# Altium schematic symbol library 16-PCBa Modules.SchLib: 122 symbols
Pins are listed as number, name and electrical type; pins without a type are passive.

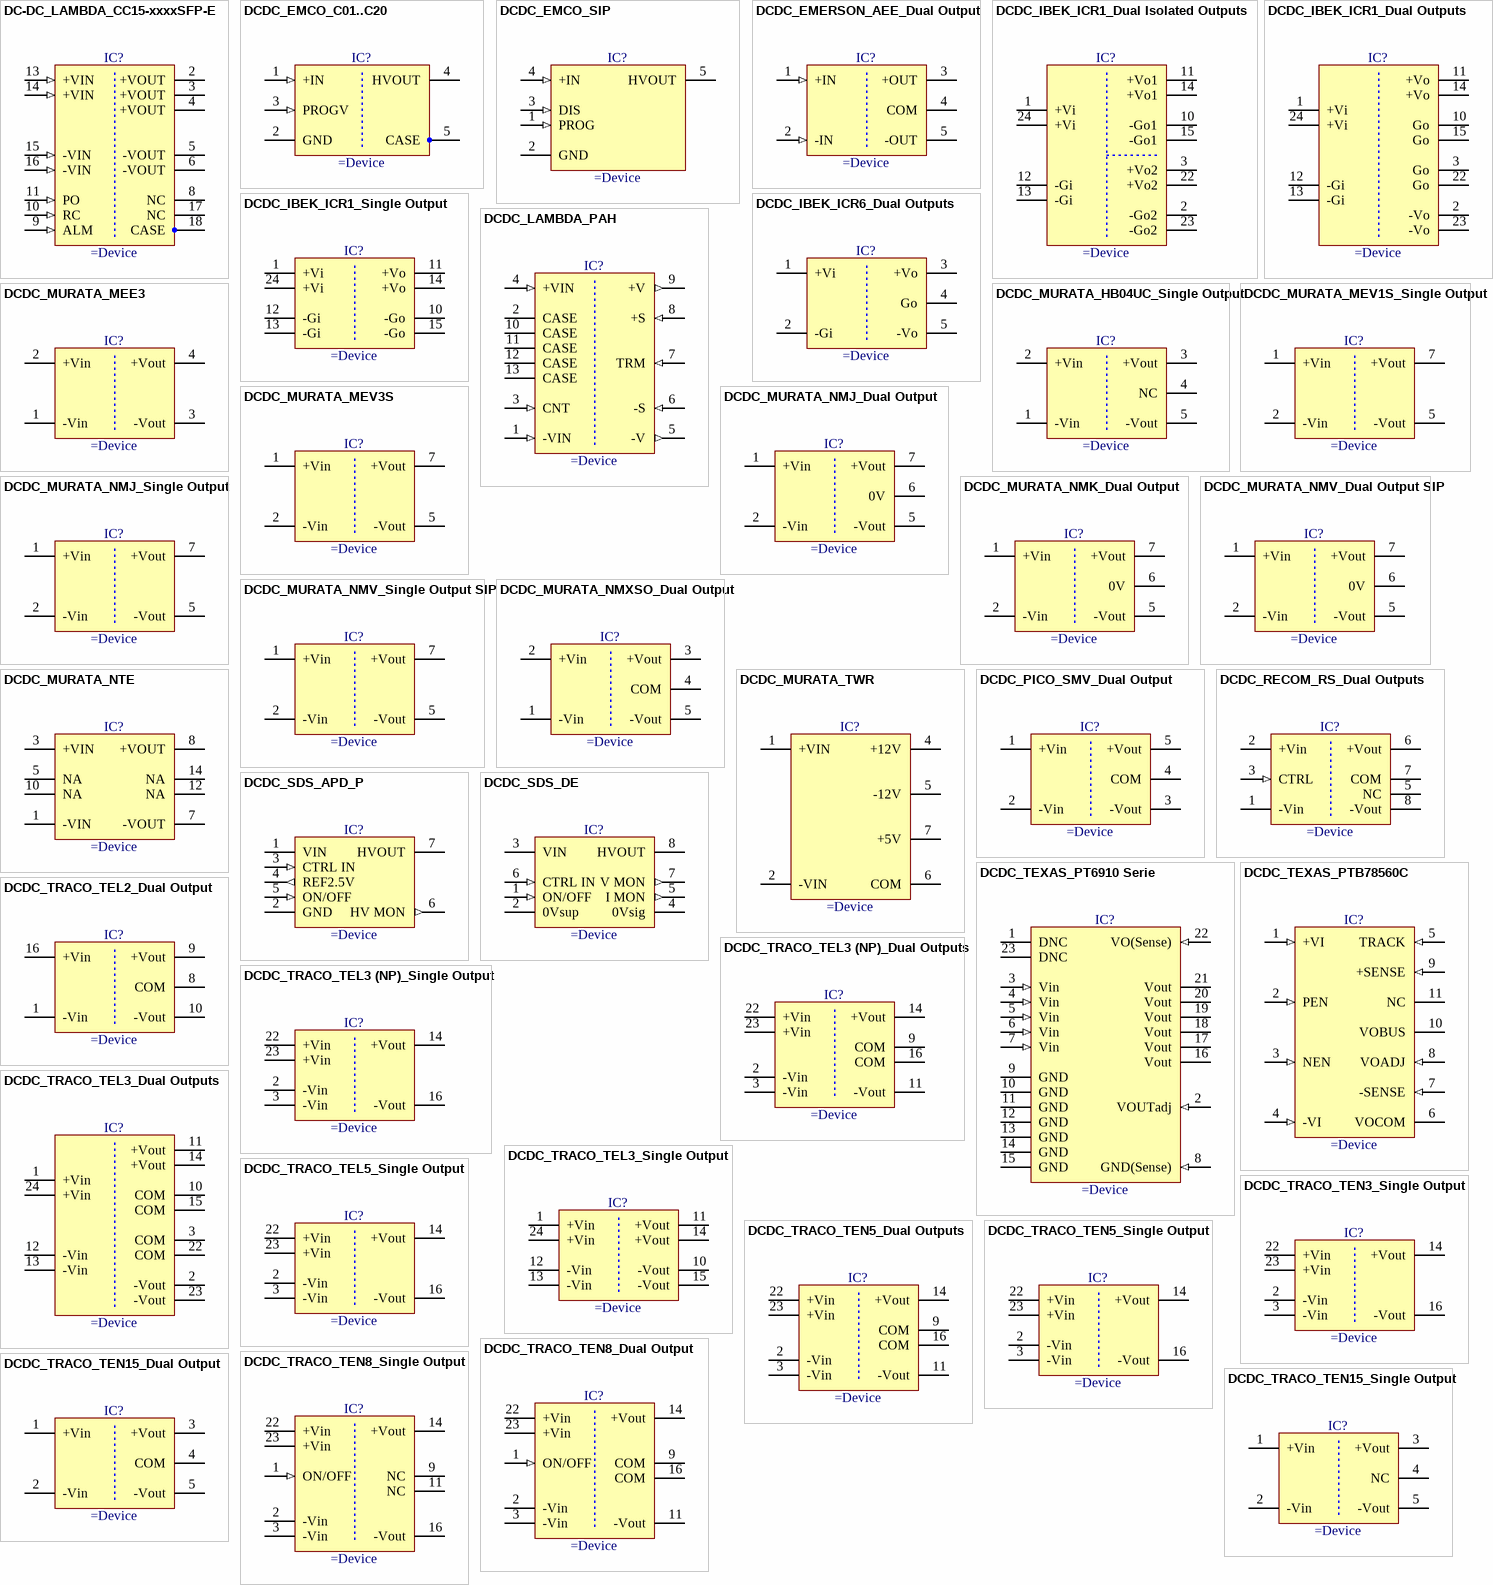
[diagram p0: symbols DC-DC_LAMBDA_CC15-xxxxSFP-E to DCDC_TRACO_TEN15_Single Output]

## DC-DC_LAMBDA_CC15-xxxxSFP-E
designator IC?
LAMBDA , CCP-E Series, 24V Input, 15W DCDC Converter
pins: 2 +VOUT (power) "Baseplate Terminal", 3 +VOUT (power) "On / Off Control terminal", 4 +VOUT (power) "Positive Input Terminal", 5 -VOUT (power) "Negative Output Terminal", 6 -VOUT (power) "Negative Remote sense", 8 NC "Positive Remote sense", 9 ALM (in) "Positive Output Terminal", 10 RC (in) "Baseplate Terminal", 11 PO (in) "Baseplate Terminal", 13 +VIN (in) "Baseplate Terminal", 14 +VIN (in) "Positive Output Terminal", 15 -VIN (in) "Positive Output Terminal", 16 -VIN (in) "Positive Output Terminal", 17 NC "Positive Output Terminal", 18 CASE (power) "Positive Output Terminal"

## DCDC_EMCO_C01..C20
designator IC?
C Series, High Voltage DC-DC Converter
pins: 1 +IN (in), 2 GND (power), 3 PROGV (in), 4 HVOUT (power), 5 CASE (power)

## DCDC_EMCO_SIP
designator IC?
SIP Series, Regulated, Low Profile High Voltage DC-DC Converter
pins: 1 PROG (in), 2 GND (power), 3 DIS (in), 4 +IN (in), 5 HVOUT (power)

## DCDC_EMERSON_AEE_Dual Output
designator IC?
EMERSON AEE 15W Serie, Dual Output DCDC Converter
pins: 1 +IN (in), 2 -IN (in), 3 +OUT (power), 4 COM (power), 5 -OUT (power)

## DCDC_IBEK_ICR1_Dual Isolated Outputs
designator IC?
IBEK, ICR1 Serie, Dual Isolated Outputs DCDC Converter
pins: 1 +Vi (power), 2 -Go2 (power), 3 +Vo2 (power), 10 -Go1 (power), 11 +Vo1 (power), 12 -Gi (power), 13 -Gi (power), 14 +Vo1 (power), 15 -Go1 (power), 22 +Vo2 (power), 23 -Go2 (power), 24 +Vi (power)

## DCDC_IBEK_ICR1_Dual Outputs
designator IC?
IBEK, ICR1 Serie, Dual Outputs DCDC Converter
pins: 1 +Vi (power), 2 -Vo (power), 3 Go (power), 10 Go (power), 11 +Vo (power), 12 -Gi (power), 13 -Gi (power), 14 +Vo (power), 15 Go (power), 22 Go (power), 23 -Vo (power), 24 +Vi (power)

## DCDC_IBEK_ICR1_Single Output
designator IC?
IBEK, ICR1 Serie, Single Output DCDC Converter
pins: 1 +Vi (power), 10 -Go (power), 11 +Vo (power), 12 -Gi (power), 13 -Gi (power), 14 +Vo (power), 15 -Go (power), 24 +Vi (power)

## DCDC_IBEK_ICR6_Dual Outputs
designator IC?
IBEK, ICR6 Serie, Dual Outputs DCDC Converter
pins: 1 +Vi (power), 2 -Gi (power), 3 +Vo (power), 4 Go (power), 5 -Vo (power)

## DCDC_LAMBDA_PAH
designator IC?
LAMBDA , PAH Serie, 50W To 200W, 48V Input Half Brick DCDC Converter
pins: 1 -VIN (in) "Negative Input Terminal", 2 CASE "Baseplate Terminal", 3 CNT (in) "On / Off Control terminal", 4 +VIN (in) "Positive Input Terminal", 5 -V (out) "Negative Output Terminal", 6 -S (in) "Negative Remote sense", 7 TRM (in) "Output adjustment Trim pin", 8 +S (in) "Positive Remote sense", 9 +V (out) "Positive Output Terminal", 10 CASE "Baseplate Terminal", 11 CASE "Baseplate Terminal", 12 CASE "Baseplate Terminal", 13 CASE "Baseplate Terminal"

## DCDC_MURATA_HB04UC_Single Output
designator IC?
4W Unregulated High Isolation DC-DC Converter
pins: 1 -Vin (power), 2 +Vin (power), 3 +Vout (power), 4 NC (power), 5 -Vout (power)

## DCDC_MURATA_MEE3
designator IC?
1kV Isolated 3W Single Output DC-DC Converter
pins: 1 -Vin (power), 2 +Vin (power), 3 -Vout (power), 4 +Vout (power)

## DCDC_MURATA_MEV1S_Single Output
designator IC?
MURATA, MEV3S Serie DCDC Converter
pins: 1 +Vin (power), 2 -Vin (power), 5 -Vout (power), 7 +Vout (power)

## DCDC_MURATA_MEV3S
designator IC?
MURATA, MEV3S Serie DCDC Converter
pins: 1 +Vin (power), 2 -Vin (power), 5 -Vout (power), 7 +Vout (power)

## DCDC_MURATA_NMJ_Dual Output
designator IC?
MURATA, NMJ Serie, Dual Output DCDC Converter
pins: 1 +Vin (power), 2 -Vin (power), 5 -Vout (power), 6 0V (power), 7 +Vout (power)

## DCDC_MURATA_NMJ_Single Output
designator IC?
MURATA, NMJ Serie, Single Output DCDC Converter
pins: 1 +Vin (power), 2 -Vin (power), 5 -Vout (power), 7 +Vout (power)

## DCDC_MURATA_NMK_Dual Output
designator IC?
MURATA, NMK Serie, Dual Output DCDC Converter
pins: 1 +Vin (power), 2 -Vin (power), 5 -Vout (power), 6 0V (power), 7 +Vout (power)

## DCDC_MURATA_NMV_Dual Output SIP
designator IC?
MURATA, NMV Serie, Dual Output DCDC Converter
pins: 1 +Vin (power), 2 -Vin (power), 5 -Vout (power), 6 0V (power), 7 +Vout (power)

## DCDC_MURATA_NMV_Single Output SIP
designator IC?
MURATA, NMV Serie, Single Output DCDC Converter
pins: 1 +Vin (power), 2 -Vin (power), 5 -Vout (power), 7 +Vout (power)

## DCDC_MURATA_NMXSO_Dual Output
designator IC?
Isolated 5W Regulated Single & Dual Output DC-DC Converter
pins: 1 -Vin (power), 2 +Vin (power), 3 +Vout (power), 4 COM (power), 5 -Vout (power)

## DCDC_MURATA_NTE
designator IC?
NTE Series, DC-DC Converter
pins: 1 -VIN (power), 3 +VIN (power), 5 NA, 7 -VOUT (power), 8 +VOUT (power), 10 NA, 12 NA, 14 NA

## DCDC_MURATA_TWR
designator IC?
High-Reliability, 2" x 1", 8-11 W, Triple Output DC/DC Converters
pins: 1 +VIN (power), 2 -VIN (power), 4 +12V (power), 5 -12V (power), 6 COM (power), 7 +5V (power)

## DCDC_PICO_SMV_Dual Output
designator IC?
PICO, SMV Serie, Dual Output DCDC Converter
pins: 1 +Vin (power), 2 -Vin (power), 3 -Vout (power), 4 COM (power), 5 +Vout (power)

## DCDC_RECOM_RS_Dual Outputs
designator IC?
RECOM, RS Series, Dual Output DCDC Converter
pins: 1 -Vin (power), 2 +Vin (power), 3 CTRL (in), 5 NC, 6 +Vout (power), 7 COM (power), 8 -Vout (power)

## DCDC_SDS_APD_P
designator IC?
SDS, APD Serie, High Voltage DC-DC Converter
pins: 1 VIN (power), 2 GND (power), 3 CTRL IN (in), 4 REF2.5V (out), 5 ON/OFF (in), 6 HV MON (out), 7 HVOUT (power)

## DCDC_SDS_DE
designator IC?
SDS, DE Serie, High Voltage DC-DC Converter
pins: 1 ON/OFF (in), 2 0Vsup (power), 3 VIN (power), 4 0Vsig (power), 5 I MON (out), 6 CTRL IN (in), 7 V MON (out), 8 HVOUT (power)

## DCDC_TEXAS_PT6910 Serie
designator IC?
12 Watt 5V/3.3V Input Plus to Minus Voltage Converter
pins: 1 DNC, 2 VOUTadj (in), 3 Vin (in), 4 Vin (in), 5 Vin (in), 6 Vin (in), 7 Vin (in), 8 GND(Sense) (in), 9 GND (power), 10 GND (power), 11 GND (power), 12 GND (power), 13 GND (power), 14 GND (power), 15 GND (power), 16 Vout (power), 17 Vout (power), 18 Vout (power), 19 Vout (power), 20 Vout (power), 21 Vout (power), 22 VO(Sense) (in), 23 DNC

## DCDC_TEXAS_PTB78560C
designator IC?
30W DC-DC Converter
pins: 1 +VI (in), 2 PEN (in), 3 NEN (in), 4 -VI (in), 5 TRACK (in), 6 VOCOM (power), 7 -SENSE (in), 8 VOADJ (in), 9 +SENSE (in), 10 VOBUS (power), 11 NC

## DCDC_TRACO_TEL2_Dual Output
designator IC?
TRACO, TEL2 Serie, Dual Output DCDC Converter
pins: 1 -Vin (power), 8 COM (power), 9 +Vout (power), 10 -Vout (power), 16 +Vin (power)

## DCDC_TRACO_TEL3 (NP)_Dual Outputs
designator IC?
TRACO, TEL3 Serie, NP Pinout, Dual Outputs DCDC Converter
pins: 2 -Vin (power), 3 -Vin (power), 9 COM (power), 11 -Vout (power), 14 +Vout (power), 16 COM (power), 22 +Vin (power), 23 +Vin (power)

## DCDC_TRACO_TEL3 (NP)_Single Output
designator IC?
TRACO, TEL3 Serie, NP Pinout, Single Output DCDC Converter
pins: 2 -Vin (power), 3 -Vin (power), 14 +Vout (power), 16 -Vout (power), 22 +Vin (power), 23 +Vin (power)

## DCDC_TRACO_TEL3_Dual Outputs
designator IC?
TRACO, TEL3 Serie, Dual Outputs DCDC Converter
pins: 1 +Vin (power), 2 -Vout (power), 3 COM (power), 10 COM (power), 11 +Vout (power), 12 -Vin (power), 13 -Vin (power), 14 +Vout (power), 15 COM (power), 22 COM (power), 23 -Vout (power), 24 +Vin (power)

## DCDC_TRACO_TEL3_Single Output
designator IC?
TRACO, TEL3 Serie, Single Output DCDC Converter
pins: 1 +Vin (power), 10 -Vout (power), 11 +Vout (power), 12 -Vin (power), 13 -Vin (power), 14 +Vout (power), 15 -Vout (power), 24 +Vin (power)

## DCDC_TRACO_TEL5_Single Output
designator IC?
TRACO, TEL5 Serie, Single Output DCDC Converter
pins: 2 -Vin (power), 3 -Vin (power), 14 +Vout (power), 16 -Vout (power), 22 +Vin (power), 23 +Vin (power)

## DCDC_TRACO_TEN3_Single Output
designator IC?
TRACO, TEN3 Serie, Single Output DCDC Converter
pins: 2 -Vin (power), 3 -Vin (power), 14 +Vout (power), 16 -Vout (power), 22 +Vin (power), 23 +Vin (power)

## DCDC_TRACO_TEN5_Dual Outputs
designator IC?
TRACO, TEN5 Serie, Dual Outputs DCDC Converter
pins: 2 -Vin (power), 3 -Vin (power), 9 COM (power), 11 -Vout (power), 14 +Vout (power), 16 COM (power), 22 +Vin (power), 23 +Vin (power)

## DCDC_TRACO_TEN5_Single Output
designator IC?
TRACO, TEN5 Serie, Single Output DCDC Converter
pins: 2 -Vin (power), 3 -Vin (power), 14 +Vout (power), 16 -Vout (power), 22 +Vin (power), 23 +Vin (power)

## DCDC_TRACO_TEN8_Dual Output
designator IC?
TRACO, TEN Serie, Dual Output DCDC Converter
pins: 1 ON/OFF (in), 2 -Vin (power), 3 -Vin (power), 9 COM (power), 11 -Vout (power), 14 +Vout (power), 16 COM (power), 22 +Vin (power), 23 +Vin (power)

## DCDC_TRACO_TEN8_Single Output
designator IC?
TRACO, TEN Serie, Single Output DCDC Converter
pins: 1 ON/OFF (in), 2 -Vin (power), 3 -Vin (power), 9 NC, 11 NC, 14 +Vout (power), 16 -Vout (power), 22 +Vin (power), 23 +Vin (power)

## DCDC_TRACO_TEN15_Dual Output
designator IC?
TRACO, TEN15 Serie, Dual Output DCDC Converter
pins: 1 +Vin (power), 2 -Vin (power), 3 +Vout (power), 4 COM (power), 5 -Vout (power)

## DCDC_TRACO_TEN15_Single Output
designator IC?
TRACO, TEN15 Serie, Single Output DCDC Converter
pins: 1 +Vin (power), 2 -Vin (power), 3 +Vout (power), 4 NC (power), 5 -Vout (power)

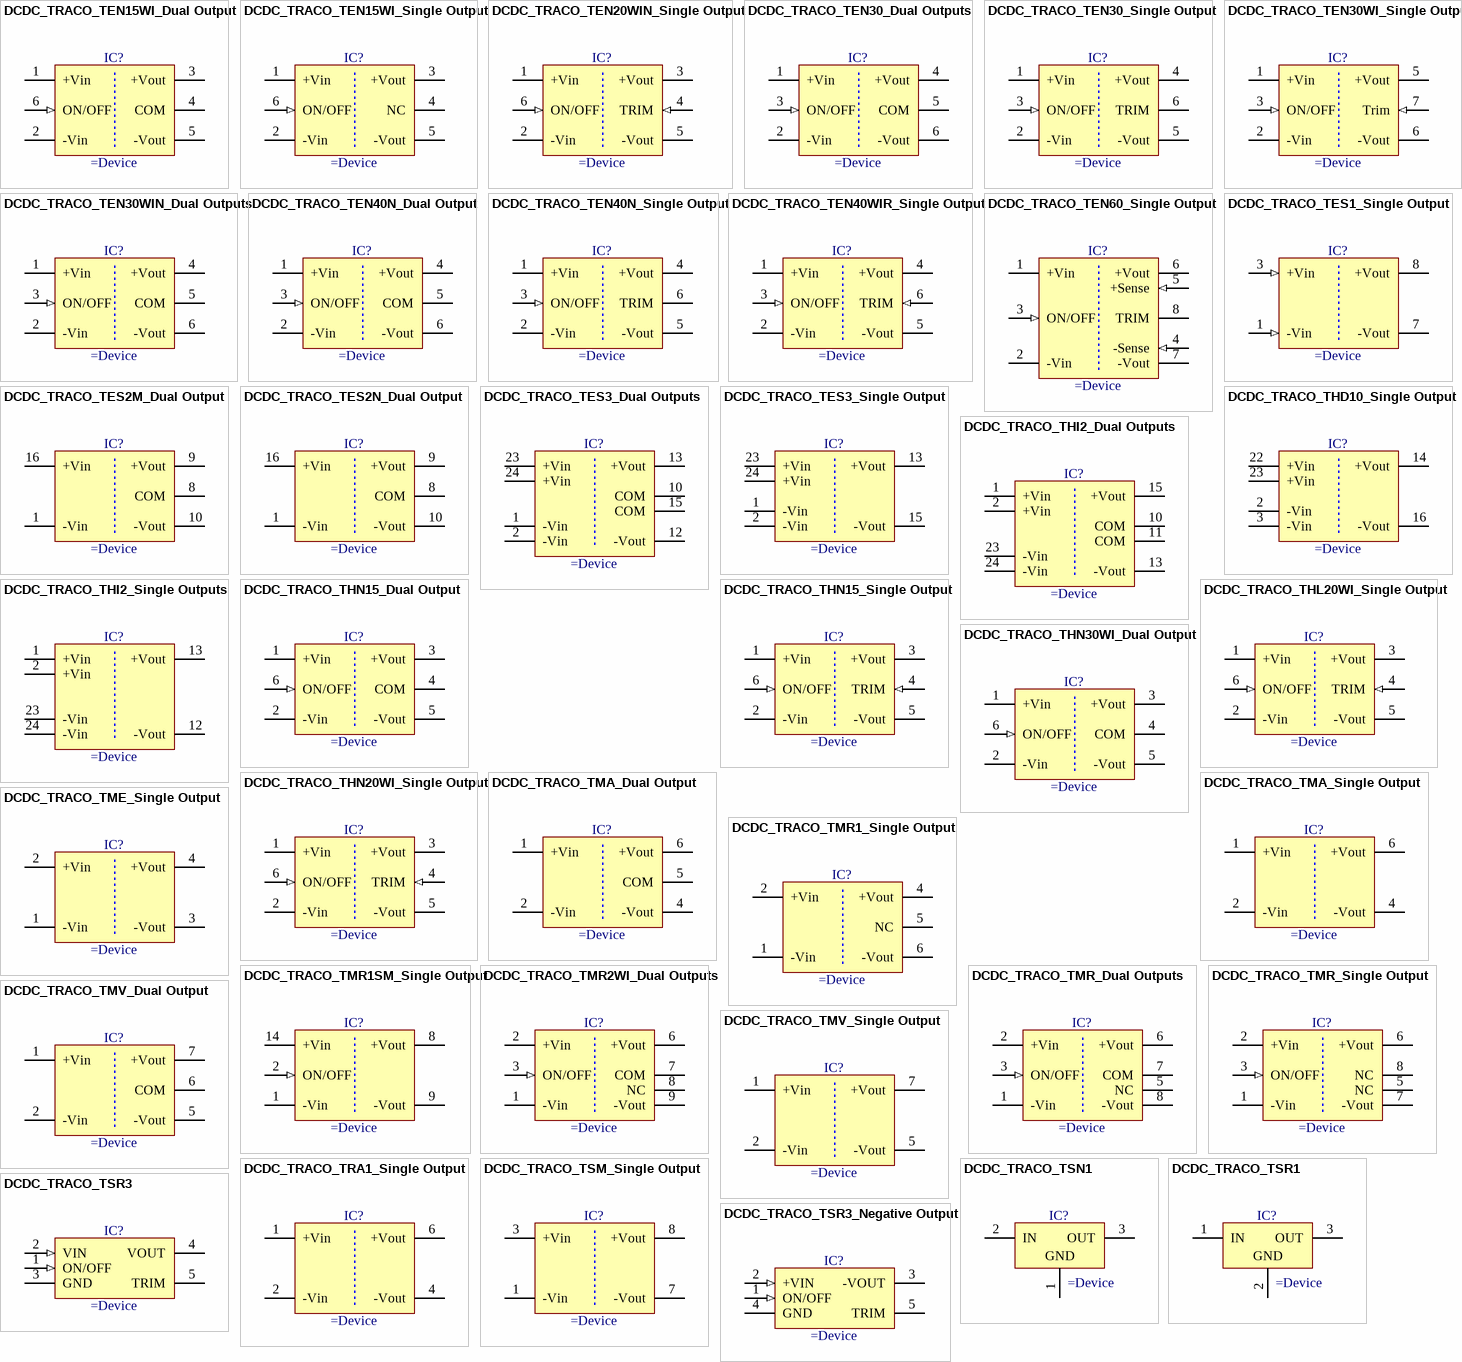
[diagram p1: symbols DCDC_TRACO_TEN15WI_Dual Output to DCDC_TRACO_TSR3_Negative Output]

## DCDC_TRACO_TEN15WI_Dual Output
designator IC?
TRACO, TEN15WI Serie, Dual Output DCDC Converter
pins: 1 +Vin (power), 2 -Vin (power), 3 +Vout (power), 4 COM (power), 5 -Vout (power), 6 ON/OFF (in)

## DCDC_TRACO_TEN15WI_Single Output
designator IC?
TRACO, TEN15WI Serie, Single Output DCDC Converter
pins: 1 +Vin (power), 2 -Vin (power), 3 +Vout (power), 4 NC (power), 5 -Vout (power), 6 ON/OFF (in)

## DCDC_TRACO_TEN20WIN_Single Output
designator IC?
TRACO, TEN20WIN Serie, Single Output DCDC Converter
pins: 1 +Vin (power), 2 -Vin (power), 3 +Vout (power), 4 TRIM (in), 5 -Vout (power), 6 ON/OFF (in)

## DCDC_TRACO_TEN30_Dual Outputs
designator IC?
TRACO, TEN30 Series, Dual Outputs DCDC Converter
pins: 1 +Vin (power), 2 -Vin (power), 3 ON/OFF (in), 4 +Vout (power), 5 COM (power), 6 -Vout (power)

## DCDC_TRACO_TEN30_Single Output
designator IC?
TRACO, TEN30 Series, Single Output DCDC Converter
pins: 1 +Vin (power), 2 -Vin (power), 3 ON/OFF (in), 4 +Vout (power), 5 -Vout (power), 6 TRIM (power)

## DCDC_TRACO_TEN30WI_Single Output
designator IC?
TRACO, TEN30WI Series, Single Outputs DCDC Converter
pins: 1 +Vin (power), 2 -Vin (power), 3 ON/OFF (in), 5 +Vout (power), 6 -Vout (power), 7 Trim (in)

## DCDC_TRACO_TEN30WIN_Dual Outputs
designator IC?
TRACO, TEN30WIN Series, Dual Outputs DCDC Converter
pins: 1 +Vin (power), 2 -Vin (power), 3 ON/OFF (in), 4 +Vout (power), 5 COM (power), 6 -Vout (power)

## DCDC_TRACO_TEN40N_Dual Output
designator IC?
TRACO, TEN40N Series, Dual Output DCDC Converter
pins: 1 +Vin (power), 2 -Vin (power), 3 ON/OFF (in), 4 +Vout (power), 5  COM (power), 6 -Vout (power)

## DCDC_TRACO_TEN40N_Single Output
designator IC?
TRACO, TEN40N Series, Single Output DCDC Converter
pins: 1 +Vin (power), 2 -Vin (power), 3 ON/OFF (in), 4 +Vout (power), 5 -Vout (power), 6 TRIM (power)

## DCDC_TRACO_TEN40WIR_Single Output
designator IC?
TRACO, TEN40WIR Serie, Single Output DCDC Converter
pins: 1 +Vin (power), 2 -Vin (power), 3 ON/OFF (in), 4 +Vout (power), 5 -Vout (power), 6 TRIM (in)

## DCDC_TRACO_TEN60_Single Output
designator IC?
TRACO, TEN60 Series, Single Output DCDC Converter
pins: 1 +Vin (power), 2 -Vin (power), 3 ON/OFF (in), 4 -Sense (in), 5 +Sense (in), 6 +Vout (power), 7 -Vout (power), 8 TRIM (power)

## DCDC_TRACO_TES1_Single Output
designator IC?
TRACO, TES1 Serie, Single Output DCDC Converter
pins: 1 -Vin (in), 3 +Vin (in), 7 -Vout (power), 8 +Vout (power)

## DCDC_TRACO_TES2M_Dual Output
designator IC?
TRACO, TES 2M Serie, Dual Output DCDC Converter
pins: 1 -Vin (power), 8 COM (power), 9 +Vout (power), 10 -Vout (power), 16 +Vin (power)

## DCDC_TRACO_TES2N_Dual Output
designator IC?
TRACO, TES 2N Serie, Dual Output DCDC Converter
pins: 1 -Vin (power), 8 COM (power), 9 +Vout (power), 10 -Vout (power), 16 +Vin (power)

## DCDC_TRACO_TES3_Dual Outputs
designator IC?
TRACO, TES3 Serie, Dual Outputs DCDC Converter
pins: 1 -Vin (power), 2 -Vin (power), 10 COM (power), 12 -Vout (power), 13 +Vout (power), 15 COM (power), 23 +Vin (power), 24 +Vin (power)

## DCDC_TRACO_TES3_Single Output
designator IC?
TRACO, TES3 Serie, Single Output DCDC Converter
pins: 1 -Vin (power), 2 -Vin (power), 13 +Vout (power), 15 -Vout (power), 23 +Vin (power), 24 +Vin (power)

## DCDC_TRACO_THD10_Single Output
designator IC?
TRACO, THD10 Series, Single Output DCDC Converter
pins: 2 -Vin (power), 3 -Vin (power), 14 +Vout (power), 16 -Vout (power), 22 +Vin (power), 23 +Vin (power)

## DCDC_TRACO_THI2_Dual Outputs
designator IC?
TRACO, THI Serie, Dual Outputs DCDC Converter
pins: 1 +Vin (power), 2 +Vin (power), 10 COM (power), 11 COM (power), 13 -Vout (power), 15 +Vout (power), 23 -Vin (power), 24 -Vin (power)

## DCDC_TRACO_THI2_Single Outputs
designator IC?
TRACO, THI Serie, Single Outputs DCDC Converter
pins: 1 +Vin (power), 2 +Vin (power), 12 -Vout (power), 13 +Vout (power), 23 -Vin (power), 24 -Vin (power)

## DCDC_TRACO_THL20WI_Single Output
designator IC?
TRACO, THL 20WI Series, Single Outputs DCDC Converter
pins: 1 +Vin (power), 2 -Vin (power), 3 +Vout (power), 4 TRIM (in), 5 -Vout (power), 6 ON/OFF (in)

## DCDC_TRACO_THN15_Dual Output
designator IC?
TRACO, THN15 Series, Dual Outputs DCDC Converter
pins: 1 +Vin (power), 2 -Vin (power), 3 +Vout (power), 4 COM (power), 5 -Vout (power), 6 ON/OFF (in)

## DCDC_TRACO_THN15_Single Output
designator IC?
TRACO, THN15 Series, Single Outputs DCDC Converter
pins: 1 +Vin (power), 2 -Vin (power), 3 +Vout (power), 4 TRIM (in), 5 -Vout (power), 6 ON/OFF (in)

## DCDC_TRACO_THN20WI_Single Output
designator IC?
TRACO, THN20WI Series, Single Outputs DCDC Converter
pins: 1 +Vin (power), 2 -Vin (power), 3 +Vout (power), 4 TRIM (in), 5 -Vout (power), 6 ON/OFF (in)

## DCDC_TRACO_THN30WI_Dual Output
designator IC?
TRACO, THN30 Series, Dual Outputs DCDC Converter
pins: 1 +Vin (power), 2 -Vin (power), 3 +Vout (power), 4 COM (power), 5 -Vout (power), 6 ON/OFF (in)

## DCDC_TRACO_TMA_Dual Output
designator IC?
TRACO, TMA Serie, Dual Output DCDC Converter
pins: 1 +Vin (power), 2 -Vin (power), 4 -Vout (power), 5 COM (power), 6 +Vout (power)

## DCDC_TRACO_TMA_Single Output
designator IC?
TRACO, TMA Serie, Single Output DCDC Converter
pins: 1 +Vin (power), 2 -Vin (power), 4 -Vout (power), 6 +Vout (power)

## DCDC_TRACO_TME_Single Output
designator IC?
TRACO, TME Serie, Single Output DCDC Converter
pins: 1 -Vin (power), 2 +Vin (power), 3 -Vout (power), 4 +Vout (power)

## DCDC_TRACO_TMR1_Single Output
designator IC?
TRACO, TMR 1 Series, Single Output DCDC Converter
pins: 1 -Vin (power), 2 +Vin (power), 4 +Vout (power), 5 NC (power), 6 -Vout (power)

## DCDC_TRACO_TMR1SM_Single Output
designator IC?
TRACO, TMR 1SM Series, Single Output DCDC Converter
pins: 1 -Vin (power), 2 ON/OFF (in), 8 +Vout (power), 9 -Vout (power), 14 +Vin (power)

## DCDC_TRACO_TMR2WI_Dual Outputs
designator IC?
TRACO, TMR 2WI Series, Dual Output DCDC Converter
pins: 1 -Vin (power), 2 +Vin (power), 3 ON/OFF (in), 6 +Vout (power), 7 COM (power), 8 NC, 9 -Vout (power)

## DCDC_TRACO_TMR_Dual Outputs
designator IC?
TRACO, TMR 2 Series, Dual Output DCDC Converter
pins: 1 -Vin (power), 2 +Vin (power), 3 ON/OFF (in), 5 NC (power), 6 +Vout (power), 7 COM (power), 8 -Vout (power)

## DCDC_TRACO_TMR_Single Output
designator IC?
TRACO, TMR Series, Single Output DCDC Converter
pins: 1 -Vin (power), 2 +Vin (power), 3 ON/OFF (in), 5 NC (power), 6 +Vout (power), 7 -Vout (power), 8 NC (power)

## DCDC_TRACO_TMV_Dual Output
designator IC?
TRACO, TMV Serie, Dual Output DCDC Converter
pins: 1 +Vin (power), 2 -Vin (power), 5 -Vout (power), 6 COM (power), 7 +Vout (power)

## DCDC_TRACO_TMV_Single Output
designator IC?
TRACO, TMV Serie, Single Output DCDC Converter
pins: 1 +Vin (power), 2 -Vin (power), 5 -Vout (power), 7 +Vout (power)

## DCDC_TRACO_TRA1_Single Output
designator IC?
TRACO, TRA1 Serie, Single Output DCDC Converter
pins: 1 +Vin (power), 2 -Vin (power), 4 -Vout (power), 6 +Vout (power)

## DCDC_TRACO_TSM_Single Output
designator IC?
TRACO, TSM Serie, Single Output DCDC Converter
pins: 1 -Vin (power), 3 +Vin (power), 7 -Vout (power), 8 +Vout (power)

## DCDC_TRACO_TSN1
designator IC?
TRACO, TSN 1 Serie, Single Output DCDC Converter
pins: 1 GND (power), 2 IN (power), 3 OUT (power)

## DCDC_TRACO_TSR1
designator IC?
TRACO, TSR 1 Serie, Single Output DCDC Converter
pins: 1 IN (power), 2 GND (power), 3 OUT (power)

## DCDC_TRACO_TSR3
designator IC?
TRACO, TSR 3 Serie, DCDC Converter
pins: 1 ON/OFF (in), 2 VIN (in), 3 GND (power), 4 VOUT (power), 5 TRIM

## DCDC_TRACO_TSR3_Negative Output
designator IC?
TRACO, TSR 3 Series, Negative Output, DCDC Converter
pins: 1 ON/OFF (in), 2 +VIN (in), 3 -VOUT (power), 4 GND (power), 5 TRIM

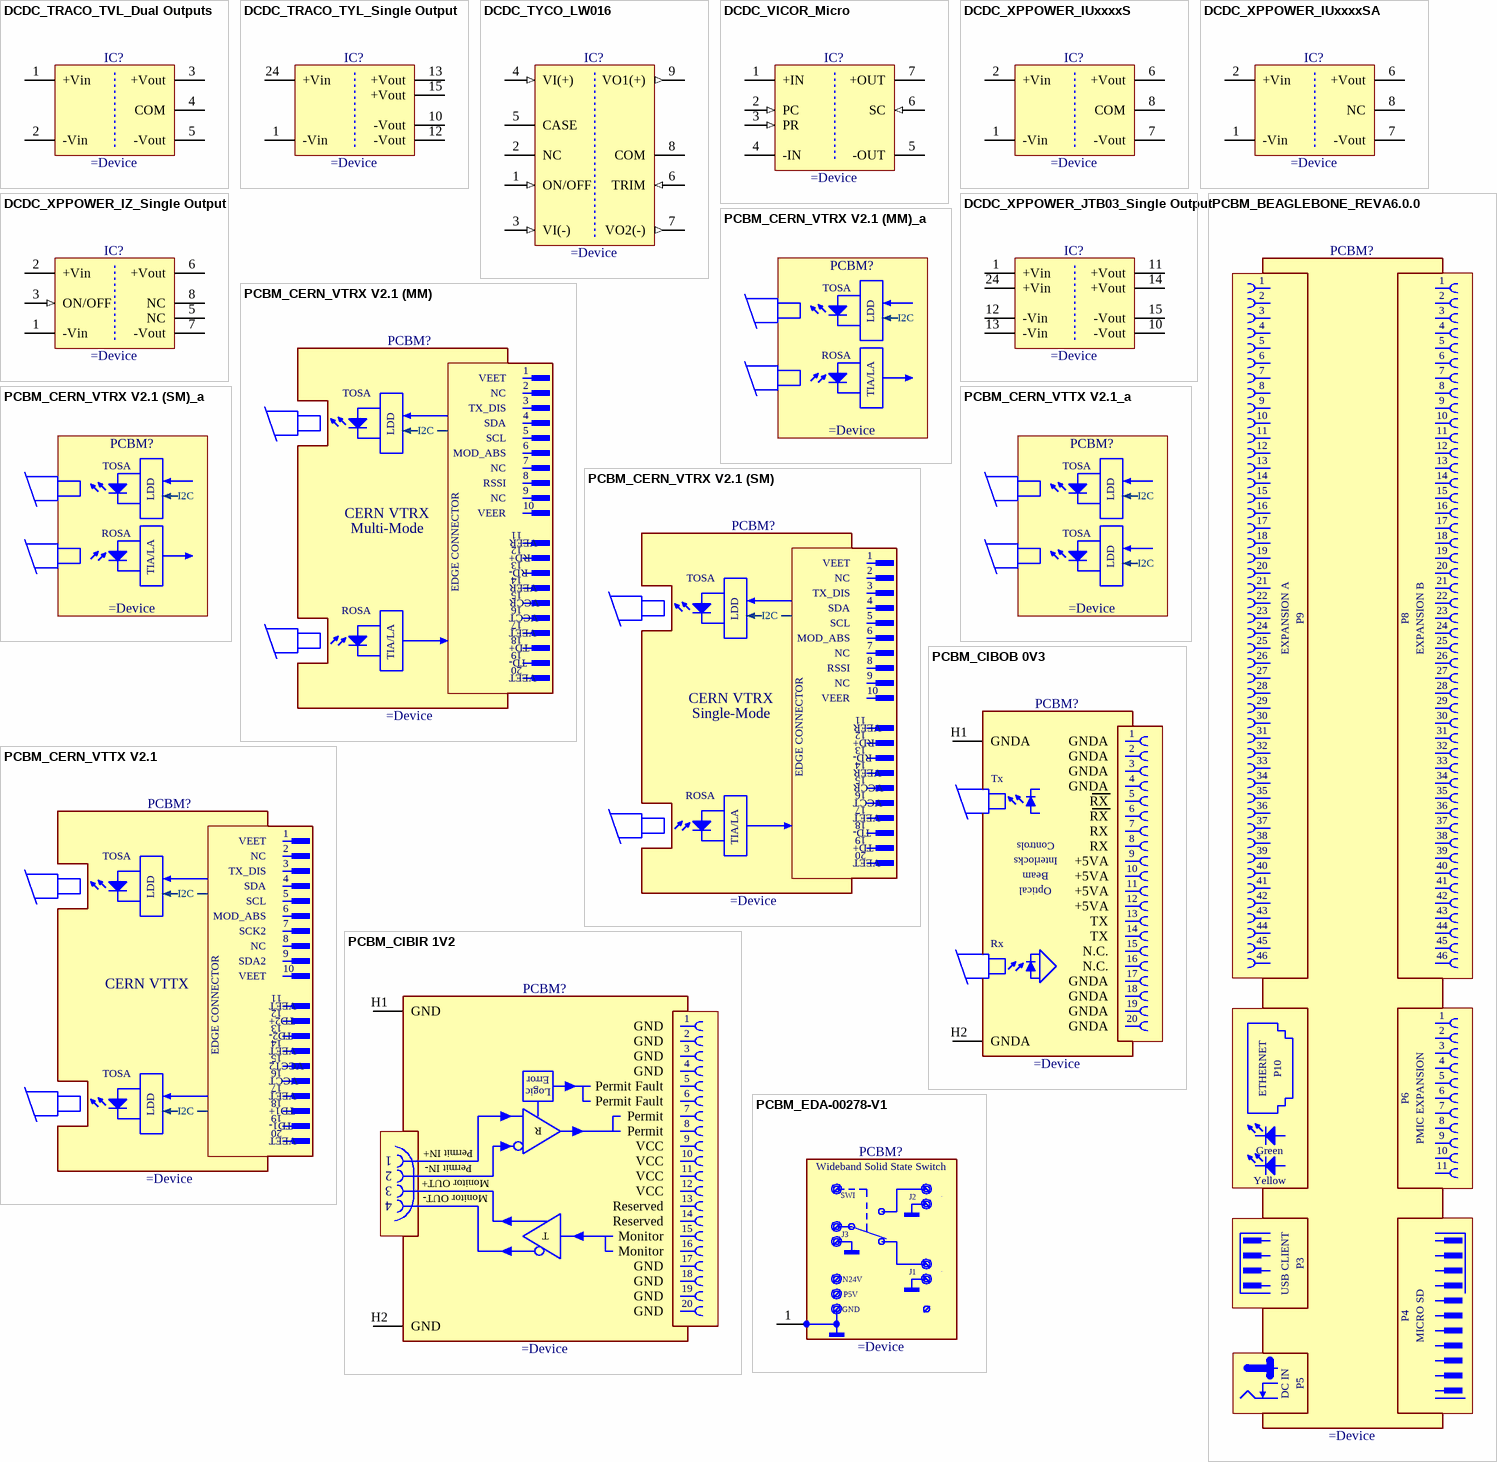
[diagram p2: symbols DCDC_TRACO_TVL_Dual Outputs to PCBM_EDA-00278-V1]

## DCDC_TRACO_TVL_Dual Outputs
designator IC?
TRACO, TVL Series, Dual Outputs DCDC Converter
pins: 1 +Vin (power), 2 -Vin (power), 3 +Vout (power), 4 COM (power), 5 -Vout (power)

## DCDC_TRACO_TYL_Single Output
designator IC?
TRACO, TYL Serie, Single Output DCDC Converter
pins: 1 -Vin (power), 10 -Vout (power), 12 -Vout (power), 13 +Vout (power), 15 +Vout (power), 24 +Vin (power)

## DCDC_TYCO_LW016
designator IC?
LW016 Dual-Output-Series Power Modules, 36 VDC to 75 VDC Inputs, 16 W
pins: 1 ON/OFF (in) "Remote ON/OFF", 2 NC "No Connection", 3 VI(-) (in), 4 VI(+) (in), 5 CASE (power) "Case Ground Pin", 6 TRIM (in), 7 VO2(-) (out), 8 COM (power) "Common", 9 VO1(+) (out)

## DCDC_VICOR_Micro
designator IC?
VICOR, Micro Family DCDC Converter
pins: 1 +IN (power), 2 PC (in), 3 PR (in), 4 -IN (power), 5 -OUT (power), 6 SC (in), 7 +OUT (power)

## DCDC_XPPOWER_IUxxxxS
designator IC?
XP POWER , IZ Series SIP Version, Dual Output, Without Remote On/Off Option, DCDC Converter
pins: 1 -Vin (power), 2 +Vin (power), 6 +Vout (power), 7 -Vout (power), 8 COM (power)

## DCDC_XPPOWER_IUxxxxSA
designator IC?
XP POWER , IZ Series SIP Version, Single Output, Without Remote On/Off Option, DCDC Converter
pins: 1 -Vin (power), 2 +Vin (power), 6 +Vout (power), 7 -Vout (power), 8 NC (power)

## DCDC_XPPOWER_IZ_Single Output
designator IC?
XP POWER , IZ Series, Single Output DCDC Converter
pins: 1 -Vin (power), 2 +Vin (power), 3 ON/OFF (in), 5 NC (power), 6 +Vout (power), 7 -Vout (power), 8 NC (power)

## DCDC_XPPOWER_JTB03_Single Output
designator IC?
XP POWER, JTB03 Serie, Single Output DCDC Converter
pins: 1 +Vin (power), 10 -Vout (power), 11 +Vout (power), 12 -Vin (power), 13 -Vin (power), 14 +Vout (power), 15 -Vout (power), 24 +Vin (power)

## PCBM_BEAGLEBONE_REVA6.0.0
designator PCBM?
Beaglebone Development Module
text: 1; 2; 3; 4; 5; 6; 7; 8; 9; 10; 11; 12; 13; 14; 15; 16; 17; 18; 19; 20; 21; 22; 23; EXPANSION A; P9; P8; EXPANSION B; 24; 25; 26; 27; 28; 29; 30; 31; 32; 33; 34; 35; 36; 37; 38; 39; 40; 41; 42; 43; 44; 45; 46; ETHERNET; P10; P6; PMIC EXPANSION; Green; Yellow; USB CLIENT; P3; P4; MICRO SD; DC IN; P5

## PCBM_CERN_VTRX V2.1 (MM)
designator PCBM?
CERN VTRX V2.1 Multi-Mode (MM)
text: 1; VEET; 2; TOSA; NC; 3; LDD; TX_DIS; 4; SDA; I2C; 5; SCL; 6; MOD_ABS; 7; 8; RSSI; EDGE CONNECTOR; 9; 10; CERN VTRX; VEER; Multi-Mode; 11; 12; RD+; 13; RD-; 14; 15; VCCR; ROSA; 16; VCCT; TIA/LA; 17; 18; TD+; 19; TD-; 20

## PCBM_CERN_VTRX V2.1 (MM)_a
designator PCBM?
CERN VTRX V2.1 Single-Mode (MM)
text: TOSA; LDD; I2C; ROSA; TIA/LA

## PCBM_CERN_VTRX V2.1 (SM)
designator PCBM?
CERN VTRX V2.1 Single-Mode (SM)
text: 1; VEET; 2; TOSA; NC; 3; LDD; TX_DIS; 4; SDA; I2C; 5; SCL; 6; MOD_ABS; 7; 8; RSSI; EDGE CONNECTOR; 9; 10; CERN VTRX; VEER; Single-Mode; 11; 12; RD+; 13; RD-; 14; 15; VCCR; ROSA; 16; VCCT; TIA/LA; 17; 18; TD-; 19; TD+; 20

## PCBM_CERN_VTRX V2.1 (SM)_a
designator PCBM?
CERN VTRX V2.1 Single-Mode (SM)
text: TOSA; LDD; I2C; ROSA; TIA/LA

## PCBM_CERN_VTTX V2.1
designator PCBM?
Versatile Twin Transmitter Module
text: 1; VEET; 2; TOSA; NC; 3; LDD; TX_DIS; 4; SDA; I2C; 5; SCL; 6; MOD_ABS; 7; SCK2; 8; EDGE CONNECTOR; 9; SDA2; 10; CERN VTTX; 11; 12; TD2+; 13; TD2-; 14; 15; VCCT2; 16; VCCT; 17; 18; TD1+; 19; TD1-; 20

## PCBM_CERN_VTTX V2.1_a
designator PCBM?
Versatile Twin Transmitter Module
text: TOSA; LDD; I2C

## PCBM_CIBIR 1V2
designator PCBM?
Controls Interlocks Beam Interface Receiver (CIBIR) 1V2 Printed Circuit Board Module
pins: H1 GND (power), H2 GND (power)
text: 1; 2; 3; 4; Error; 5; Permit Fault; Logic; 6; 7; Permit; 8; R; 9; VCC; Permit IN+; 10; Permit IN-; 11; Monitor OUT+; 12; Monitor OUT-; 13; Reserved; 14; 15; T; Monitor; 16; 17; 18; 19; 20

## PCBM_CIBOB 0V3
designator PCBM?
Controls Interlocks Beam Optical B (CIBOB) 0V3 Printed Circuit Boar Module
pins: H1 GNDA (power), H2 GNDA (power)
text: 1; 2; 3; Tx; 4; 5; RX; 6; 7; 8; Controls; 9; Interlocks; +5VA; 10; Beam; 11; Optical; 12; 13; TX; 14; Rx; 15; N.C.; 16; 17; 18; 19; 20

## PCBM_EDA-00278-V1
designator PCBM?
"Wideband Solid State Switch" Printed Circuit Board Module
pins: 1 (power)
text: Wideband Solid State Switch; SWI; J2; J3; J1; N24V; P5V; GND

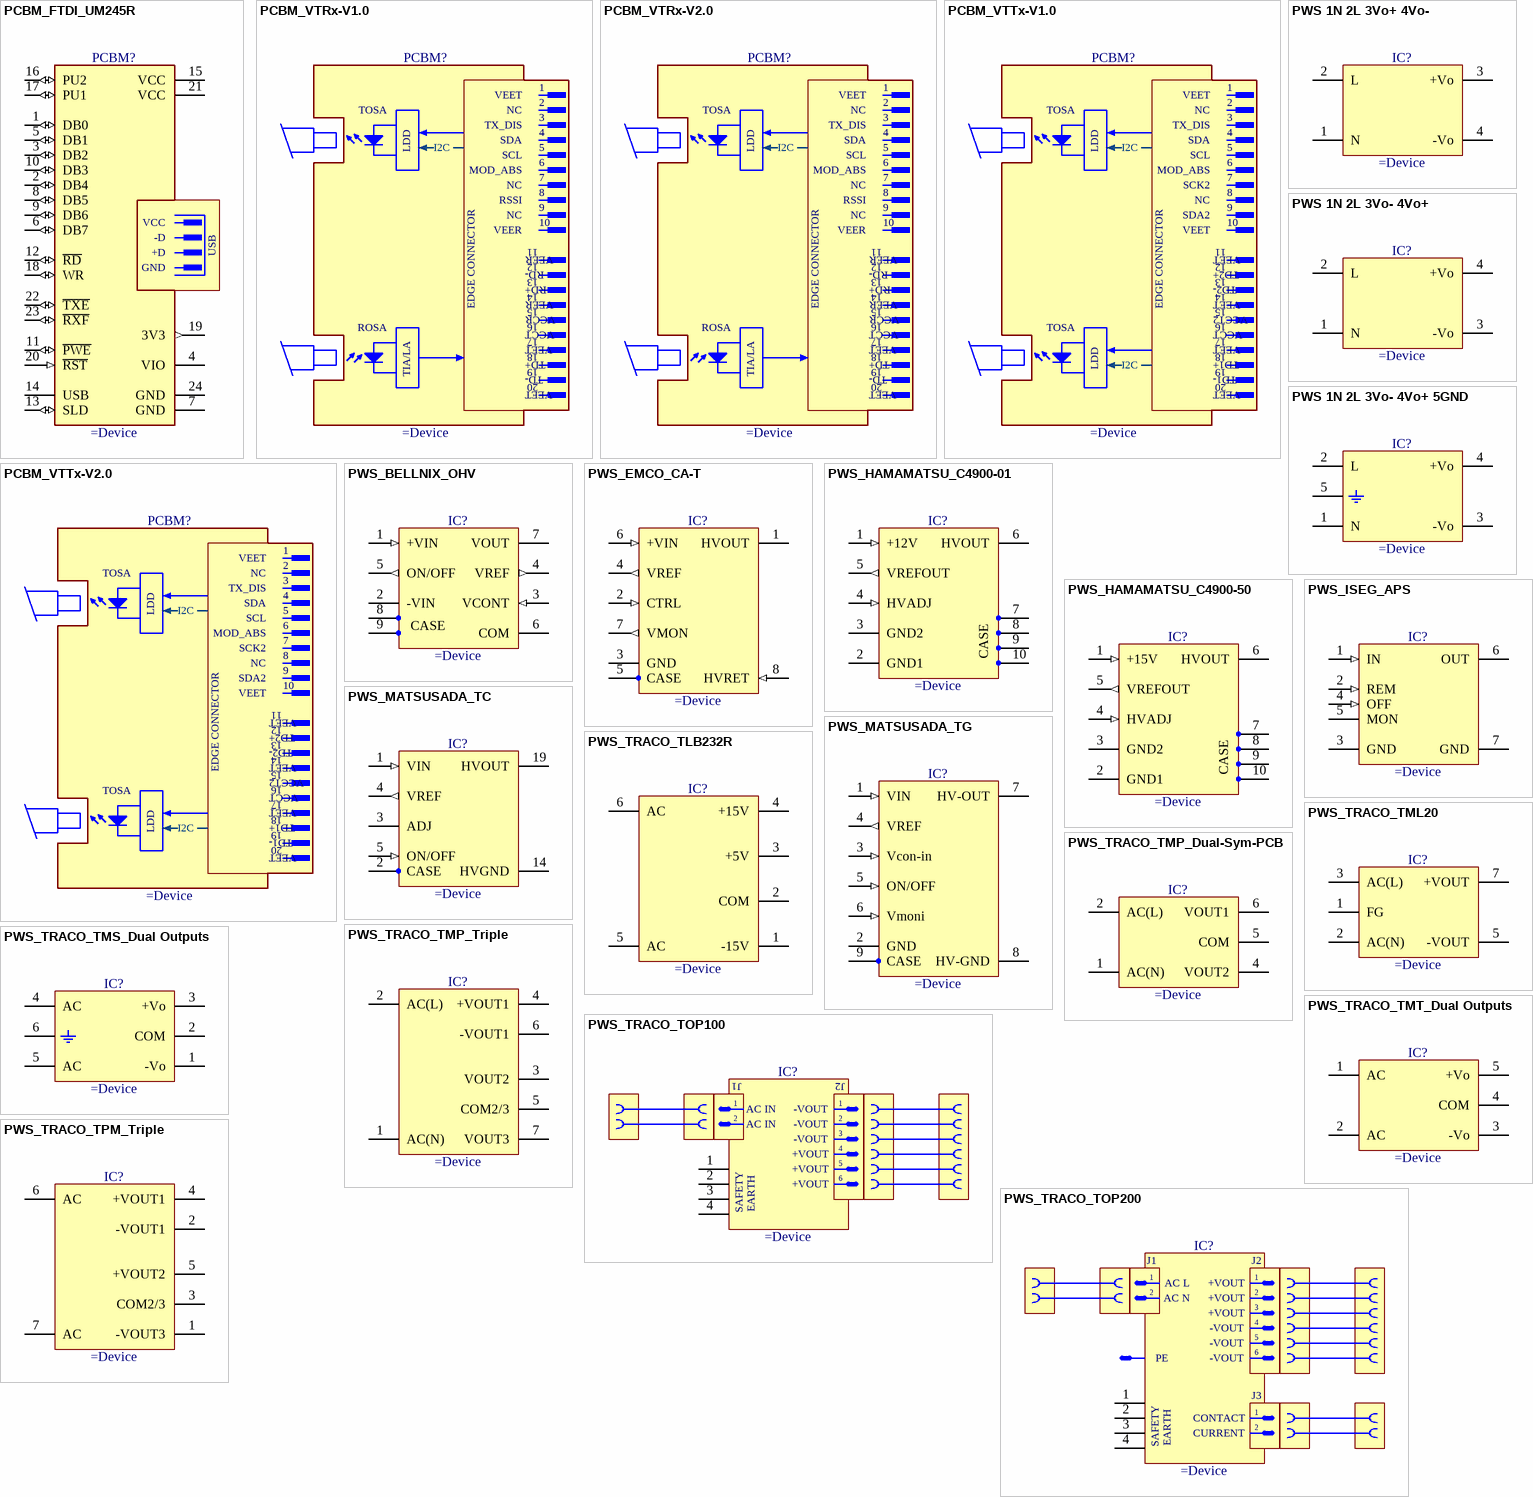
[diagram p3: symbols PCBM_FTDI_UM245R to PWS_TRACO_TPM_Triple]

## PCBM_FTDI_UM245R
designator PCBM?
Parallel FIFO Development Module
pins: 1 DB0 (io), 2 DB4 (io), 3 DB2 (io), 4 VIO (power), 5 DB1 (io), 6 DB7 (io), 7 GND (power), 8 DB5 (io), 9 DB6 (io), 10 DB3 (io), 11 ~{PWE} (io), 12 ~{RD} (io), 13 SLD (io), 14 USB (power), 15 VCC (power), 16 PU2 (io), 17 PU1 (io), 18 WR (io), 19 3V3 (out), 20 ~{RST} (in), 21 VCC (power), 22 ~{TXE} (io), 23 ~{RXF} (io), 24 GND (power)
text: -D; +D

## PCBM_VTRx-V1.0
designator PCBM?
Versatile Transmitter Module
text: 1; VEET; 2; TOSA; NC; 3; LDD; TX_DIS; 4; SDA; I2C; 5; SCL; 6; MOD_ABS; 7; 8; RSSI; EDGE CONNECTOR; 9; 10; VEER; 11; 12; RD-; 13; RD+; 14; 15; VCCR; ROSA; 16; VCCT; TIA/LA; 17; 18; TD+; 19; TD-; 20

## PCBM_VTRx-V2.0
designator PCBM?
Versatile Transmitter Module
text: 1; VEET; 2; TOSA; NC; 3; LDD; TX_DIS; 4; SDA; I2C; 5; SCL; 6; MOD_ABS; 7; 8; RSSI; EDGE CONNECTOR; 9; 10; VEER; 11; 12; RD-; 13; RD+; 14; 15; VCCR; ROSA; 16; VCCT; TIA/LA; 17; 18; TD+; 19; TD-; 20

## PCBM_VTTx-V1.0
designator PCBM?
Versatile Twin Transmitter Module
text: 1; VEET; 2; TOSA; NC; 3; LDD; TX_DIS; 4; SDA; I2C; 5; SCL; 6; MOD_ABS; 7; SCK2; 8; EDGE CONNECTOR; 9; SDA2; 10; 11; 12; TD2+; 13; TD2-; 14; 15; VCCT2; 16; VCCT; 17; 18; TD1+; 19; TD1-; 20

## PCBM_VTTx-V2.0
designator PCBM?
Versatile Twin Transmitter Module
text: 1; VEET; 2; TOSA; NC; 3; LDD; TX_DIS; 4; SDA; I2C; 5; SCL; 6; MOD_ABS; 7; SCK2; 8; EDGE CONNECTOR; 9; SDA2; 10; 11; 12; TD2+; 13; TD2-; 14; 15; VCCT2; 16; VCCT; 17; 18; TD1+; 19; TD1-; 20

## PWS 1N 2L 3Vo+ 4Vo-
designator IC?
Power Supply
pins: 1 N (power), 2 L (power), 3 +Vo (power), 4 -Vo (power)

## PWS 1N 2L 3Vo- 4Vo+
designator IC?
Power Supply
pins: 1 N (power), 2 L (power), 3 -Vo (power), 4 +Vo (power)

## PWS 1N 2L 3Vo- 4Vo+ 5GND
designator IC?
Power Supply
pins: 1 N (power), 2 L (power), 3 -Vo (power), 4 +Vo (power), 5 EARTH (power)

## PWS_BELLNIX_OHV
designator IC?
BELLNIX OHV Series, Ultracompact, Adjustable Output High-Voltage Power Supply
pins: 1 +VIN (in), 2 -VIN (power), 3 VCONT (in), 4 VREF (out), 5 ON/OFF (out), 6 COM (power), 7 VOUT (power), 8 CASE (power), 9 CASE (power)

## PWS_EMCO_CA-T
designator IC?
BELLNIX OHV Series, EMCO CA-T Series, High Performance, Precision Regulated, High-Voltage Power Supply , Body 45.72x28.45mm
pins: 1 HVOUT (power), 2 CTRL (in), 3 GND (power), 4 VREF (out), 5 CASE (power), 6 +VIN (in), 7 VMON (out), 8 HVRET (in)

## PWS_HAMAMATSU_C4900-01
designator IC?
HAMAMATSU C4900 RS Series, High Voltage Power Supply
pins: 1 +12V (in), 2 GND1 (power), 3 GND2 (power), 4 HVADJ (in), 5 VREFOUT (out), 6 HVOUT (power), 7 CASE (power), 8 CASE (power), 9 CASE (power), 10 CASE (power)

## PWS_HAMAMATSU_C4900-50
designator IC?
HAMAMATSU C4900 RS Series, High Voltage Power Supply
pins: 1 +15V (in), 2 GND1 (power), 3 GND2 (power), 4 HVADJ (in), 5 VREFOUT (out), 6 HVOUT (power), 7 CASE (power), 8 CASE (power), 9 CASE (power), 10 CASE (power)

## PWS_ISEG_APS
designator IC?
1W High Voltage Power Supply APS-series
pins: 1 IN (in), 2 REM (in), 3 GND (power), 4 OFF (in), 5 MON, 6 OUT (power), 7 GND (power)

## PWS_MATSUSADA_TC
designator IC?
Power Supply
pins: 1 VIN (in), 2 CASE, 3 ADJ, 4 VREF (out), 5 ON/OFF (in), 14 HVGND (power), 19 HVOUT (power)

## PWS_MATSUSADA_TG
designator IC?
Power Supply
pins: 1 VIN (in), 2 GND (power), 3 Vcon-in (in), 4 VREF (out), 5 ON/OFF (in), 6 Vmoni (in), 7 HV-OUT (power), 8 HV-GND (power), 9 CASE

## PWS_TRACO_TLB232R
designator IC?
Power Supply TLB Serie, Triple Output +5V, +15V -15V
pins: 1 -15V (power), 2 COM (power), 3 +5V (power), 4 +15V (power), 5 AC (power), 6 AC (power)

## PWS_TRACO_TML20
designator IC?
TML 20 Series, 20W Power Supply
pins: 1 FG (power), 2 AC(N) (power), 3 AC(L) (power), 5 -VOUT (power), 7 +VOUT (power)

## PWS_TRACO_TMP_Dual-Sym-PCB
designator IC?
Power Supply TMP Serie, Symetrical Dual Output, PCB Version
pins: 1 AC(N) (power), 2 AC(L) (power), 4 VOUT2 (power), 5 COM (power), 6 VOUT1 (power)

## PWS_TRACO_TMP_Triple
designator IC?
Power Supply TMP Serie, Triple Output, PCB Version
pins: 1 AC(N) (power), 2 AC(L) (power), 3 VOUT2 (power), 4 +VOUT1 (power), 5 COM2/3 (power), 6 -VOUT1 (power), 7 VOUT3 (power)

## PWS_TRACO_TMS_Dual Outputs
designator IC?
Power Supply
pins: 1 -Vo (power), 2 COM (power), 3 +Vo (power), 4 AC (power), 5 AC (power), 6 EARTH (power)

## PWS_TRACO_TMT_Dual Outputs
designator IC?
Power Supply
pins: 1 AC (power), 2 AC (power), 3 -Vo (power), 4 COM (power), 5 +Vo (power)

## PWS_TRACO_TOP100
designator IC?
TOP 100 Serie, 100W Power Supply
pins: 1 EARTH (power), 2 EARTH (power), 3 EARTH (power), 4 EARTH (power)
text: J1; J2; AC IN; -VOUT; +VOUT; 5; 6; SAFETY

## PWS_TRACO_TOP200
designator IC?
TOP 200 Serie, 200W Power Supply
pins: 1 EARTH (power), 2 EARTH (power), 3 EARTH (power), 4 EARTH (power)
text: J1; J2; AC L; +VOUT; AC N; -VOUT; 5; 6; PE; J3; CONTACT; SAFETY; CURRENT

## PWS_TRACO_TPM_Triple
designator IC?
Power Supply TPM Serie, Triple Output, PCB Version
pins: 1 -VOUT3 (power), 2 -VOUT1 (power), 3 COM2/3 (power), 4 +VOUT1 (power), 5 +VOUT2 (power), 6 AC (power), 7 AC (power)